# Altium schematic symbol library wireless_boards.SchLib: 9 symbols
Pins are listed as number, name and electrical type; pins without a type are passive.

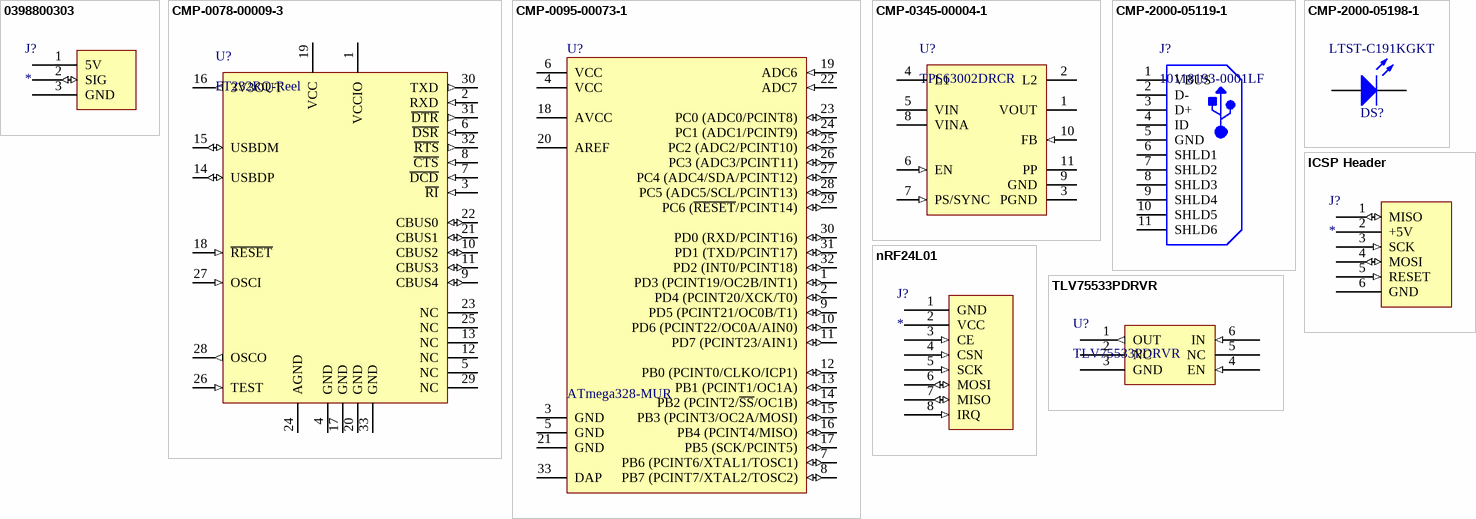
[diagram p0: symbols 0398800303 to TLV75533PDRVR]

## 0398800303
designator J?
3 Position Wire to Board Terminal Block Horizontal with Board 0.200" (5.08mm) Through Hole; Supplier 1: Digi-Key
footprint 0398800303 (3 Position Wire to Board Terminal Block Horizontal with Board 0.200" (5.08mm) Through Hole)
pins: 1 5V (power), 2 SIG (io), 3 GND (power)

## CMP-0078-00009-3
designator U?, comment FT232RQ-Reel
USB UART Asynchronous Serial Data Transfer Chip, 32-pin QFN, Tape and Reel; Manufacturer: FTDI; ComponentLink1URL: http://www.ftdichip.com/; RevisionNote: DatasheetVersion updated to 2.10 Mar-2012; ComponentLink1Description: Manufacturer URL; PackageReference: PQFN5X5-32; PackageDescription: 32-Pin Quad Flat No-Lead 0.5 mm Pitch, Pullback, 3.2 x 3.2 mm Exposed Pad; DatasheetVersion: ver 2.10, Mar-2012; PartNumber: FT232RQ-Reel; ComponentLink2URL: http://www.ftdichip.com/Support/Documents/DataSheets/ICs/DS_FT232R.pdf; PackageVersion: Mar-12; ComponentLink2Description: Datasheet
footprint PQFN5X5-32_V (QFN, 32-Leads, Body 5x5mm, Pitch 0.5mm, Thermal Pad 3.3x3.3mm, FTDI Recommended)
pins: 1 VCCIO (power), 2 RXD (in), 3 ~{RI} (in), 4 GND (power), 5 NC, 6 ~{DSR} (in), 7 ~{DCD} (in), 8 ~{CTS} (in), 9 CBUS4 (io), 10 CBUS2 (io), 11 CBUS3 (io), 12 NC, 13 NC, 14 USBDP (io), 15 USBDM (io), 16 3V3OUT (out), 17 GND (power), 18 ~{RESET} (in), 19 VCC (power), 20 GND (power), 21 CBUS1 (io), 22 CBUS0 (io), 23 NC, 24 AGND (power), 25 NC, 26 TEST (in), 27 OSCI (in), 28 OSCO (out), 29 NC, 30 TXD (out), 31 ~{DTR} (out), 32 ~{RTS} (out), 33 GND (power)

## CMP-0095-00073-1
designator U?, comment ATmega328-MUR
8-bit AVR Microcontroller, 32KB Flash, 1KB EEPROM, 2KB SRAM, 32-pin MLF, Industrial Grade (-40°C to 85°C); DatasheetVersion: revA, Jan-2010; Code_JEDEC: MO-220-VHHD-2; PackageDescription: 32-Pin Micro Lead Frame Package (MLF),  5 x 5 x 1.0 mm Body, Pitch 0.50 mm, 3.10mm Exposed Pad; PackageReference: 32M1-A; PackageVersion: revE, May-2006
footprint 32M1-A_L (QFN, 32-Leads, Body 5x5mm, Pitch 0.5mm, Thermal Pad 3.3x3.3mm, IPC High Density)
footprint 32M1-A_M (QFN, 32-Leads, Body 5x5mm, Pitch 0.5mm, Thermal Pad 3.3x3.3mm, IPC Low Density)
footprint 32M1-A_N (QFN, 32-Leads, Body 5x5mm, Pitch 0.5mm, Thermal Pad 3.3x3.3mm, IPC Medium Density)
pins: 1 PD3 (PCINT19/OC2B/INT1) (io), 2 PD4 (PCINT20/XCK/T0) (io), 3 GND (power), 4 VCC (power), 5 GND (power), 6 VCC (power), 7 PB6 (PCINT6/XTAL1/TOSC1) (io), 8 PB7 (PCINT7/XTAL2/TOSC2) (io), 9 PD5 (PCINT21/OC0B/T1) (io), 10 PD6 (PCINT22/OC0A/AIN0) (io), 11 PD7 (PCINT23/AIN1) (io), 12 PB0 (PCINT0/CLKO/ICP1) (io), 13 PB1 (PCINT1/OC1A) (io), 14 PB2 (PCINT2/~{SS}/OC1B) (io), 15 PB3 (PCINT3/OC2A/MOSI) (io), 16 PB4 (PCINT4/MISO) (io), 17 PB5 (SCK/PCINT5) (io), 18 AVCC (power), 19 ADC6 (in), 20 AREF, 21 GND (power), 22 ADC7 (in), 23 PC0 (ADC0/PCINT8) (io), 24 PC1 (ADC1/PCINT9) (io), 25 PC2 (ADC2/PCINT10) (io), 26 PC3 (ADC3/PCINT11) (io), 27 PC4 (ADC4/SDA/PCINT12) (io), 28 PC5 (ADC5/SCL/PCINT13) (io), 29 PC6 (~{RESET}/PCINT14) (io), 30 PD0 (RXD/PCINT16) (io), 31 PD1 (TXD/PCINT17) (io), 32 PD2 (INT0/PCINT18) (io), 33 DAP (power)

## CMP-0345-00004-1
designator U?, comment TPS63002DRCR
Buck-Boost Voltage Converter with 1.8 to 5.5 V Input and 5 V Output, -40 to 85 degC, 10-Pin SON (DRC), Green (RoHS & no Sb/Br); Manufacturer: Texas Instruments; Iq(Typ)(mA): 0.03; Preset Vout(V): 5; Regulated Outputs(#): 1; Iout(Max)(A): 1.2; Dynamic Voltage Scaling: TRUE; Vin(Min)(V): 1.8; Switching Frequency(Max)(kHz): 1500; SubFamily: Buck-Boost Regulator; Vin(Max)(V): 5.5; DatasheetVersion: SLVS520B; ComponentLink1Description: Datasheet; ComponentLink1URL: http://www.ti.com/general/docs/lit/getliterature.tsp?genericPartNumber=TPS63002&fileType=pdf; Vout(Max)(V): 5; PackageVersion: revL, Sep-2011; PackageDescription: 10-Pin Plastic Small Outline No-Lead, 3 x 3 x 1 mm Body, 0.5 mm Pitch, Exposed Pad; ComponentLink2URL: http://www.ti.com/litv/pdf/mpds117k; Topology: Buck-Boost; Vout(Min)(V): 5; Mounting Technology: Surface Mount; ComponentLink2Description: Package Specification; PackageReference: DRC10-2400X1650TP; Eco-Plan: Green (RoHS & no Sb/Br); PartNumber: TPS63002DRCR; Synchronous Rectification: TRUE
footprint DRC10-2400X1650TP (SON, 10-Leads, Body 3x3mm, Pitch 0.5mm, Thermal Pad 2.4x1.65mm, TI Recommended)
pins: 1 VOUT (power) "Buck-boost converter output", 2 L2 "Connection for Inductor", 3 PGND (power) "Power ground", 4 L1 "Connection for Inductor", 5 VIN (power) "Supply voltage for power stage", 6 EN (in) "Enable input. (1 enabled, 0 disabled)", 7 PS/SYNC (in) "Enable / disable power save mode (1 disabled, 0 enabled, clock signal for synchronization)", 8 VINA (power) "Supply voltage for control stage", 9 GND (power) "Control/logic ground", 10 FB (in) "Voltage feedback of adjustable versions, must be connected to VOUT on fixed output voltage versions", 11 PP (power) "Must be soldered to achieve appropriate power dissipation. Should be connected to PGND."

## CMP-2000-05119-1
designator J?, comment 10118193-0001LF
Micro USB B Type Receptacle, -55 to 85 degC, 5-Pin SMD, RoHS, Tape and Reel; Manufacturer: FCI; Insulation Resistance: 1000MOhms; Gender: Female; Current Rating: 1.8A; Number of Contacts: 5Contact; Connector Type: MicroUSBTypeBreceptacle; Mounting Angle: Right; Datasheet Version: Rev. C, 05/2015; Packaging: Reel; Product Category: USBConnectors; Standard: USB2.0; Factory Pack Quantity: 1200; Operating Temperature Range: -55Cto+85C; Termination Style: SMD/SMT; Datasheet URL: http://datasheet.octopart.com/10118193-0001LF-FCI-datasheet-55953155.pdf; Contact Material: CopperAlloy; RoHS: Details; Contact Plating: Gold; Flammability Rating: UL94V-0; Manufacturer URL: http://www.fci.com/; Brand: FCI; Product: MicroUSBTypeBConnectors; Color: Black
footprint FCI-10118193-0001LF-5_V (Micro, USB-B, 5-Leads, Body 7.86x5.05mm, Pitch 0.65 mm)
pins: 1 VBUS, 2 D-, 3 D+, 4 ID, 5 GND, 6 SHLD1, 7 SHLD2, 8 SHLD3, 9 SHLD4, 10 SHLD5, 11 SHLD6

## CMP-2000-05198-1
designator DS?, comment LTST-C191KGKT
Chip LED, Green, 574 nm, 40 pF, -55 to 85 degC, 2-Pin SMD, RoHS, Tape and Reel; Manufacturer: Lite-On; Rad Hardened: No; Emitting Color: YellowGreen; Product Height (mm): 0.55mm; Forward Voltage: 2.4V; Number of Elements: 1; Dominant Wave Length: 571nm; DELETED: Compliant; Viewing Angle: 130deg; High Brightness: Yes; Peak Wavelength: 574nm; Type: Uni-Color; Forward Current: 30mA; Product Length (mm): 1.6mm; Luminous Intensity: 35mcd; Test Current (It): 20mA; Chip Material: AlGaInP; Product Depth (mm): 0.8mm; Shape Type: Rectangular; Reverse Voltage: 5V; Power Dissipation: 75W; Pin Count: 2; Lens Dimensions: 1.1X0.8X0.37mm; Packaging: TapeandReel; Main Category: ChipLED; Operating Temperature Classification: Industrial; Package Type: ChipLed; Mounting: SurfaceMount; Lum Intensity: 35mcd; Operating Temp Range: -55Cto85C; Datasheet Version: Jan-07; Datasheet URL: http://download.siliconexpert.com/pdfs/2007/08/26/semi_b/manual/lot/ds/ltst-c191kgkt.pdf; Manufacturer URL: http://www.us.liteon.com/
footprint LITE-ON-LTST-C191KRKT-2_V (Chip, 2-Leads, Body 1.6x0.8mm)
pins: 1 A, 2 K

## ICSP Header
designator J?
In-circuit serial programmer, used to burn bootloader onto chips like the ATMega328P.
pins: 1 MISO (io), 2 +5V (power), 3 SCK (in), 4 MOSI (io), 5 RESET (in), 6 GND (power)

## nRF24L01
designator J?
2.4GHz wireless transceiver module
footprint nRF24L01 (4x2 header pin holes for nRF24L01 transceiver module)
pins: 1 GND (power), 2 VCC (power), 3 CE (in), 4 CSN (in), 5 SCK (in), 6 MOSI (io), 7 MISO (io), 8 IRQ (in)

## TLV75533PDRVR
designator U?
500-mA, Low IQ, Small Size, Low Dropout Regulator; Supplier 1: Digi-Key
footprint SON65P200X80_HS-7N (SON, 6-Leads, Body 2.00x2.00mm, Pitch 0.65mm, Thermal Pad 1.60x0.89mm, IPC Medium Density)
pins: 1 OUT (out), 2 NC, 3 GND (power), 4 EN (in), 5 NC, 6 IN (in)